# EAGLE library part 74HC4053D,653 (library NXP_By_element14_Batch_1)
Triple 2-channel analog multiplexer/demultiplexer
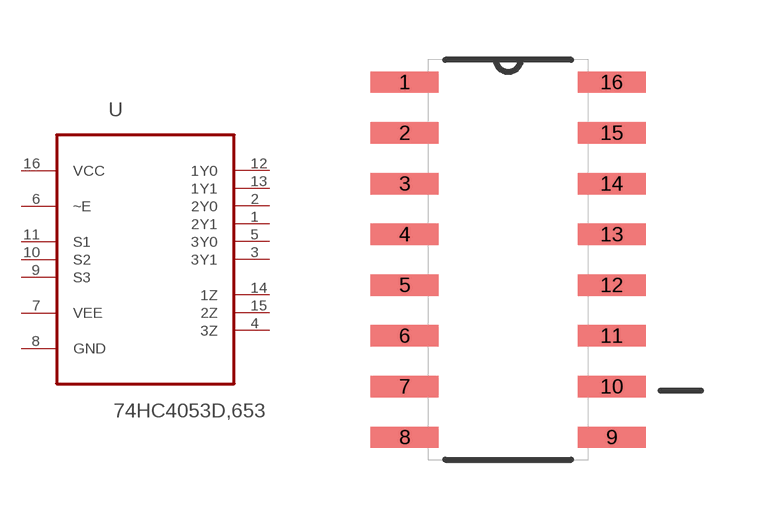
[diagram p112: symbol with the pads of SOP127P600X175-16N; footprint SOP127P600X175-16N]

Designator prefix U

## 74HC4053D,653 (MPN: 74HC4053D,653; OC_FARNELL: 1826643; OC_NEWARK: 78R7403; P1I: o; PACKAGE: VSOP-16; SUPPLIER: NXP)  [SOP127P600X175-16N]
1  2Y1
2  2Y0
3  3Y1
4  3Z
5  3Y0
6  ~E  in
7  VEE  pwr
8  GND  pas
9  S3  in
10  S2  in
11  S1  in
12  1Y0
13  1Y1
14  1Z
15  2Z
16  VCC  pwr

## Footprint SOP127P600X175-16N (pad centres in mm)
smd 1.702 x 0.533: 1 -2.591,4.445; 2 -2.591,3.175; 3 -2.591,1.905; 4 -2.591,0.635; 5 -2.591,-0.635; 6 -2.591,-1.905; 7 -2.591,-3.175; 8 -2.591,-4.445; 9 2.591,-4.445; 10 2.591,-3.175; 11 2.591,-1.905; 12 2.591,-0.635; 13 2.591,0.635; 14 2.591,1.905; 15 2.591,3.175; 16 2.591,4.445